# EAGLE library part TB6600 (library tb6600hq)
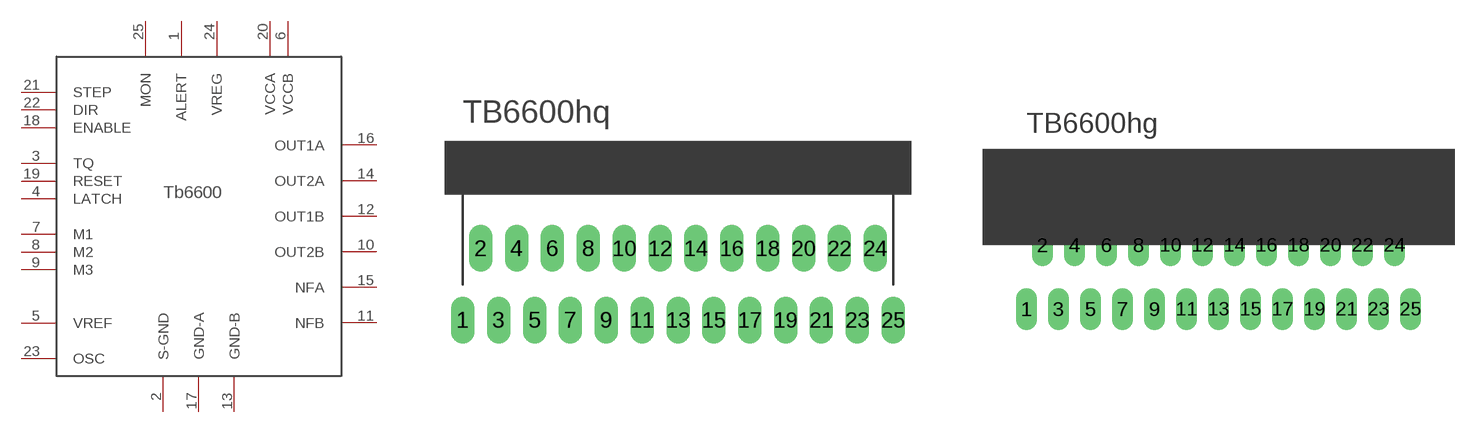
[diagram p0: symbol with the pads of TB6600HQ; footprints TB6600HQ, P-HZIP25-1.00G]

Designator prefix -

## TB6600HQ  [TB6600HQ]
1  ALERT  out
2  S-GND  pwr
3  TQ  in
4  LATCH  in
5  VREF  in
6  VCCB  pwr
7  M1  in
8  M2  in
9  M3  in
10  OUT2B  out
11  NFB  in
12  OUT1B  out
13  GND-B  pwr
14  OUT2A  out
15  NFA  in
16  OUT1A  out
17  GND-A  out
18  ENABLE  in
19  RESET  in
20  VCCA  pwr
21  STEP  in
22  DIR  in
23  OSC  in
24  VREG  out
25  MON  out

## TB6600HG  [P-HZIP25-1.00G]
Pads as for TB6600HQ

## Footprint TB6600HQ (pad centres in mm)
drill 0.8 long: 1 -12,-2; 2 -11,2; 3 -10,-2; 4 -9,2; 5 -8,-2; 6 -7,2; 7 -6,-2; 8 -5,2; 9 -4,-2; 10 -3,2; 11 -2,-2; 12 -1,2; 13 0,-2; 14 1,2; 15 2,-2; 16 3,2; 17 4,-2; 18 5,2; 19 6,-2; 20 7,2; 21 8,-2; 22 9,2; 23 10,-2; 24 11,2; 25 12,-2

## Footprint P-HZIP25-1.00G (pad centres in mm)
drill 0.8 long: 1 -12,-2; 2 -11,2; 3 -10,-2; 4 -9,2; 5 -8,-2; 6 -7,2; 7 -6,-2; 8 -5,2; 9 -4,-2; 10 -3,2; 11 -2,-2; 12 -1,2; 13 0,-2; 14 1,2; 15 2,-2; 16 3,2; 17 4,-2; 18 5,2; 19 6,-2; 20 7,2; 21 8,-2; 22 9,2; 23 10,-2; 24 11,2; 25 12,-2